# Altium schematic symbol library DecadeBox.SchLib: 13 symbols
Pins are listed as number, name and electrical type; pins without a type are passive.

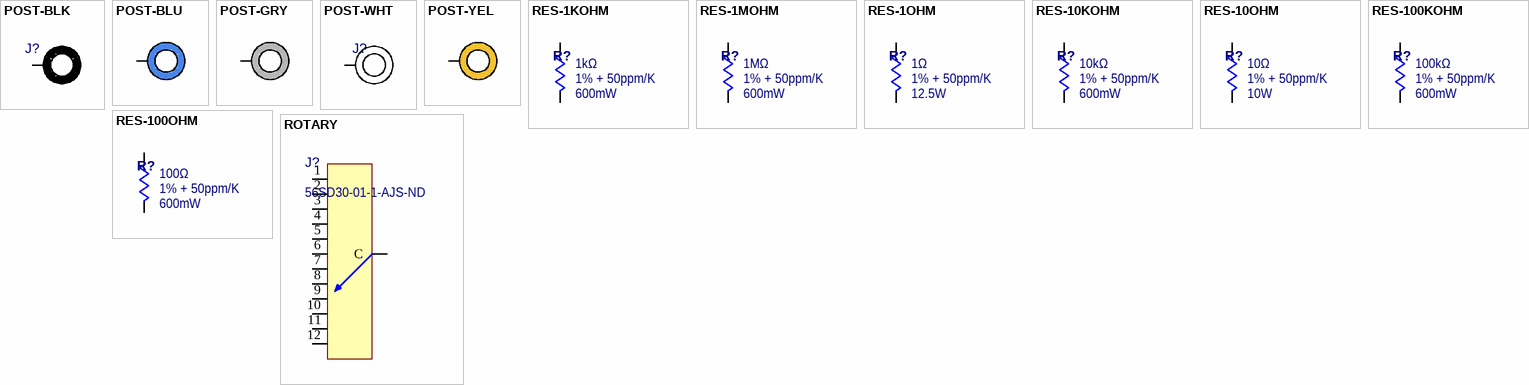
[diagram p0: symbols POST-BLK to ROTARY]

## POST-BLK
designator J?, comment 501-2472-ND  (value not drawn)
BINDING POST, BLACK; Supplier 1: Digi-Key; Supplier Part Number 1: 501-2472-ND
pins: 1 0

## POST-BLU
designator J?, comment 501-1084-ND  (value not drawn)
BINDING POST, BLUE; Supplier 1: Digi-Key; Supplier Part Number 1: 501-1084-ND
pins: 1 0

## POST-GRY
designator J?, comment 501-1714-ND  (value not drawn)
BINDING POST, GRAY; Supplier 1: Digi-Key; Supplier Part Number 1: 501-1714-ND
pins: 1 0

## POST-WHT
designator J?, comment 501-1470-ND  (value not drawn)
BINDING POST, WHITE; Supplier 1: Digi-Key; Supplier Part Number 1: 501-1470-ND
pins: 1 0

## POST-YEL
designator J?, comment 501-1082-ND  (value not drawn)
BINDING POST, YELLOW; Supplier 1: Digi-Key; Supplier Part Number 1: 501-1082-ND
pins: 1 0

## RES-1KOHM
designator R?, comment value 1kΩ  Tolerance: 1% + 50ppm/K  Power: 600mW  (hidden comment: PPC1.00KZCT-ND)
RES 1kΩ 1% 50ppm/K 600mW; Supplier 1: Digi-Key; Supplier Part Number 1: PPC1.00KZCT-ND
footprint MRS25 (VISHAY)
pins: 1, 2

## RES-1MOHM
designator R?, comment value 1MΩ  Tolerance: 1% + 50ppm/K  Power: 600mW  (hidden comment: 56-MRS25000C1004FRP00CT-ND)
RES 1MΩ 1% 50ppm/K 600mW; Supplier 1: Digi-Key; Supplier Part Number 1: 56-MRS25000C1004FRP00CT-ND
footprint MRS25 (VISHAY)
pins: 1, 2

## RES-1OHM
designator R?, comment value 1Ω  Tolerance: 1% + 50ppm/K  Power: 12.5W  (hidden comment: KAL10FB1R00-ND)
RES 1Ω 1% 50ppm/K 12.5W; Supplier 1: Digi-Key; Supplier Part Number 1: KAL10FB1R00-ND
footprint MRS25 (VISHAY)
pins: 1, 2

## RES-10KOHM
designator R?, comment value 10kΩ  Tolerance: 1% + 50ppm/K  Power: 600mW  (hidden comment: BC3955CT-ND)
RES 10kΩ 1% 50ppm/K 600mW; Supplier 1: Digi-Key; Supplier Part Number 1: BC3955CT-ND
footprint MRS25 (VISHAY)
pins: 1, 2

## RES-10OHM
designator R?, comment value 10Ω  Tolerance: 1% + 50ppm/K  Power: 10W  (hidden comment: 696-1491-ND)
RES 10Ω 1% 50ppm/K 10W; Supplier 1: Digi-Key; Supplier Part Number 1: 696-1491-ND
footprint MRS25 (VISHAY)
pins: 1, 2

## RES-100KOHM
designator R?, comment value 100kΩ  Tolerance: 1% + 50ppm/K  Power: 600mW  (hidden comment: BC3327CT-ND)
RES 100kΩ 1% 50ppm/K 600mW; Supplier 1: Digi-Key; Supplier Part Number 1: BC3327CT-ND
footprint MRS25 (VISHAY)
pins: 1, 2

## RES-100OHM
designator R?, comment value 100Ω  Tolerance: 1% + 50ppm/K  Power: 600mW  (hidden comment: PPC100ZCT-ND)
RES 100Ω 1% 50ppm/K 600mW; Supplier 1: Digi-Key; Supplier Part Number 1: PPC100ZCT-ND
footprint MRS25 (VISHAY)
pins: 1, 2

## ROTARY
designator J?, comment 56SD30-01-1-AJS-ND
12 POLE, SINGLE THROW, ROTARY SWITCH; Supplier 1: Digi-Key; Supplier Part Number 1: 56SD30-01-1-AJS-ND
pins: 1, 2, 3, 4, 5, 6, 7, 8, 9, 10, 11, 12, 13 C